# Altium integrated library Interface - CAN.IntLib: 1 symbol
Pins are listed as number, name and electrical type; pins without a type are passive.

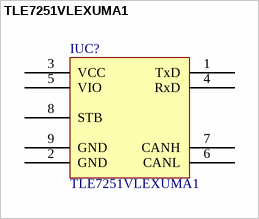
[diagram p0: symbol TLE7251VLEXUMA1]

## TLE7251VLEXUMA1
designator IUC?
AUTOMOTIVE CAN FD TRANSCEIVER; Manufacturer: Infineon Technologies; Voltage - Supply: 3 V ~ 5.5 V; Part Number: TLE7251VLEXUMA1; PartId: 9705; Supplier 1: Digi-Key; Supplier Part Number 1: TLE7251VLEXUMA1CT-ND; ComponentLink1Description: Datasheet; ComponentLink1URL: http://www.infineon.com/dgdl/Infineon-TLE7251V-DS-v01_00-EN.pdf?fileId=5546d4624fb7fef2014fe054235e5fde; ComponentLink2Description: Digi-Key Listing; ComponentLink2URL: http://www.digikey.com/product-detail/en/infineon-technologies/TLE7251VLEXUMA1/TLE7251VLEXUMA1CT-ND/5824322; Price: 1.65; Type: Transceiver; Device Package: 8-TDFN Exposed Pad; Operating Temperature: -40C ~ 150C; Protocol: CAN
footprint INFINEON PGTSON-8
pins: 1 TxD, 2 GND, 3 VCC, 4 RxD, 5 VIO, 6 CANL, 7 CANH, 8 STB, 9 GND